# Altium footprint library SO-32.PcbLib: 1 footprints
Each footprint in its own frame and in the unit in brackets; x right, y up, seen from the top. Pads: shape width x height; smd on the part's side, far side on the other; paste and mask are expansions set on the pad; w line width, h text height; cw(c..) or ccw(c..) is an arc to the next point about the centre after c.
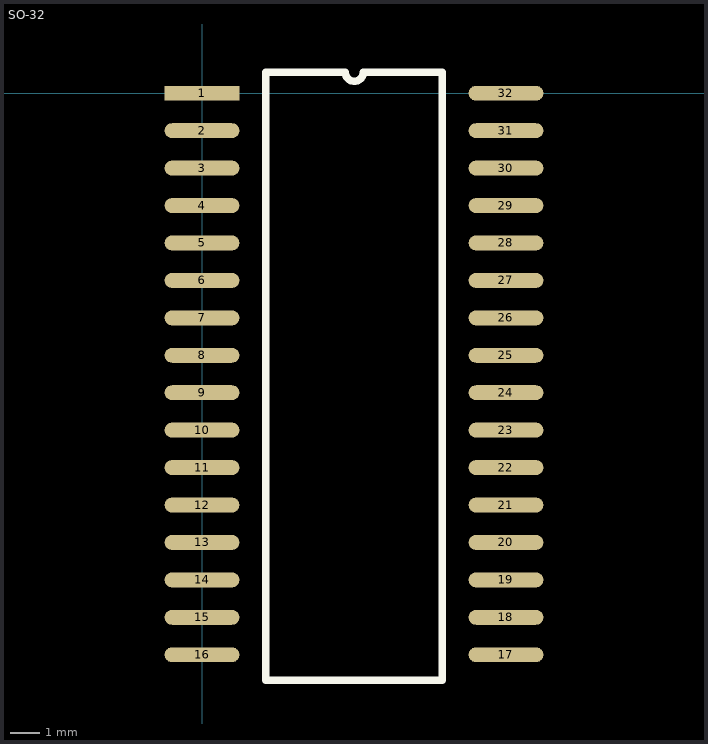
[diagram p0: the footprint, top view; thin cyan lines are the x and y axes]

## SO-32 [mil]
height 110
pads (32):
  rect 100x20 smd: 1(0,0)
  oval 100x20 smd: 2(0,-50) 3(0,-100) 4(0,-150) 5(0,-200) 6(0,-250) 7(0,-300) 8(0,-350) 9(0,-400) 10(0,-450) 11(0,-500) 12(0,-550) 13(0,-600) 14(0,-650) 15(0,-700) 16(0,-750) 17(406,-750) 18(406,-700) 19(406,-650) 20(406,-600) 21(406,-550) 22(406,-500) 23(406,-450) 24(406,-400) 25(406,-350) 26(406,-300) 27(406,-250) 28(406,-200) 29(406,-150) 30(406,-100) 31(406,-50) 32(406,0)
TopOverlay:
  lines w10: 85,25 85,-784 321,-784 321,25 ; 85,28 190.5,28 ; 191.48,28 ccw(c203.49,28) 215.5,28 321,28